# EAGLE library part MCP23008 (library Microchip)
IC I/O EXPANDER I2C 8B
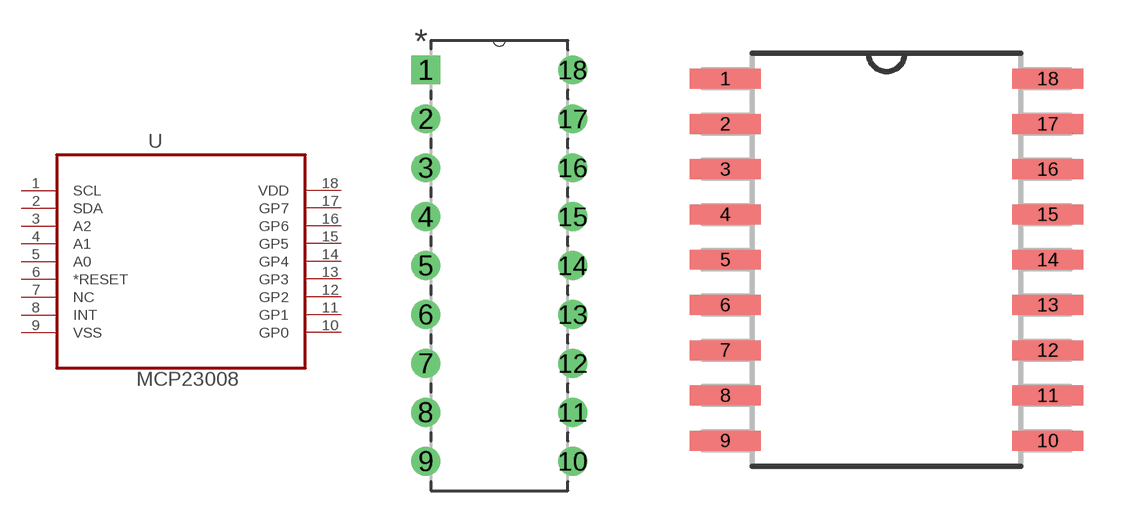
[diagram p5: symbol with the pads of DIP254P762X533-18; footprints DIP254P762X533-18, SOIC127P1030X265-18N]

Designator prefix U

## MCP23008/PDIP  [DIP254P762X533-18]
1  SCL  in
2  SDA  pas
3  A2  pas
4  A1  in
5  A0  in
6  *RESET  in
7  NC  in
8  INT  out
9  VSS  pas
10  GP0  pas
11  GP1  pas
12  GP2  pas
13  GP3  pas
14  GP4  pas
15  GP5  pas
16  GP6  pas
17  GP7  pas
18  VDD  pwr

## MCP23008/SOIC  [SOIC127P1030X265-18N]
Pads as for DIP254P762X533-18

## Footprint DIP254P762X533-18 (pad centres in mm)
drill 0.991 square: 1 -7.62,20.32
drill 0.991: 2 -7.62,17.78; 3 -7.62,15.24; 4 -7.62,12.7; 5 -7.62,10.16; 6 -7.62,7.62; 7 -7.62,5.08; 8 -7.62,2.54; 9 -7.62,0; 10 0,0; 11 0,2.54; 12 0,5.08; 13 0,7.62; 14 0,10.16; 15 0,12.7; 16 0,15.24; 17 0,17.78; 18 0,20.32

## Footprint SOIC127P1030X265-18N (pad centres in mm)
smd 1.981 x 0.559: 1 -4.521,5.08; 2 -4.521,3.81; 3 -4.521,2.54; 4 -4.521,1.27; 5 -4.521,0; 6 -4.521,-1.27; 7 -4.521,-2.54; 8 -4.521,-3.81; 9 -4.521,-5.08; 10 4.521,-5.08; 11 4.521,-3.81; 12 4.521,-2.54; 13 4.521,-1.27; 14 4.521,0; 15 4.521,1.27; 16 4.521,2.54; 17 4.521,3.81; 18 4.521,5.08